# Altium footprint library Power_BJT_MOS_PcbLib.PcbLib: 24 footprints (part 2 of 2)
Each footprint in its own frame and in the unit in brackets; x right, y up, seen from the top. Pads: shape width x height; smd on the part's side, far side on the other; paste and mask are expansions set on the pad; w line width, h text height; cw(c..) or ccw(c..) is an arc to the next point about the centre after c.
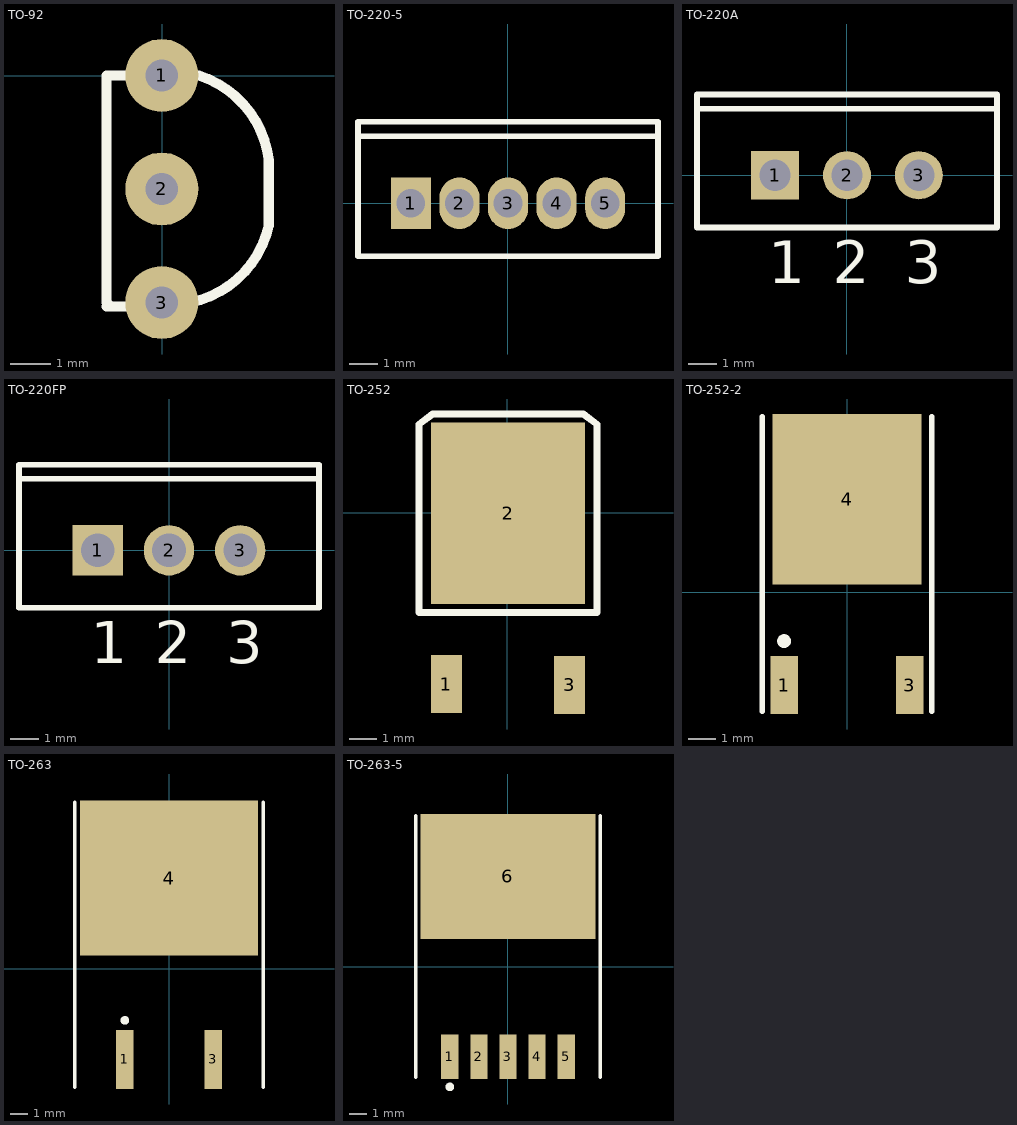
[diagram p1: the footprints below, top view; thin cyan lines are the x and y axes]

## TO-92 [mm]
pads (3):
  round 1.8 hole 0.8: 1(-0.009,0.004) 2(-0.009,-2.796) 3(-0.009,-5.596)
Top Overlay:
  lines w0.25: -1.369,-5.696 0.231,-5.696 ; -1.269,-5.696 -1.369,-5.596 -1.369,0.004 0.531,0.004 ; -0.354,-5.589 ccw(c0.192,-3.149) 2.631,-3.696 ; -0.136,0.104 cw(c0.147,-2.379) 2.631,-2.096
  lines w0.254: 2.631,-3.696 2.631,-2.096

## TO-220-5 [mm] "TO, Thru-Hole, Vertical, Heatsink Mounted; 5 In-Line Leads; Pitch 1.70 mm"
height 15.1
pads (5):
  rect 1.4x1.8 hole 1: 1(-3.4,0)
  oval 1.4x1.8 hole 1: 2(-1.7,0) 3(0,0) 4(1.7,0) 5(3.4,0)
Top Overlay:
  lines w0.2: -5.25,2.35 5.25,2.35 ; -5.25,-1.85 -5.25,2.85 5.25,2.85 5.25,-1.85 -5.25,-1.85

## TO-220A [mm] "TO, Thru-Hole, Vertical, Heatsink Mounted; 3 In-Line Leads; Pitch 2.54 mm"
height 19.7
pads (3):
  rect 1.7x1.7 hole 1.1: 1(-2.54,0)
  round 1.7 hole 1.1: 2(0,0) 3(2.54,0)
Top Overlay:
  lines w0.2: -5.3,2.35 5.3,2.35 ; -5.3,-1.85 5.3,-1.85 5.3,2.85 -5.3,2.85 -5.3,-1.85
  text "1" at -2.79,-3.825 h1.5
  text "2" at -0.5,-3.825 h1.5
  text "3" at 2.04,-3.825 h1.5

## TO-220FP [mm] "TO, Thru-Hole, Vertical, Heatsink Mounted; 3 In-Line Leads; Pitch 2.54 mm"
height 16.4
pads (3):
  rect 1.8x1.8 hole 1.2: 1(-2.54,0)
  round 1.8 hole 1.2: 2(0,0) 3(2.54,0)
Top Overlay:
  lines w0.2: -5.35,2.55 5.35,2.55 ; -5.35,-2.05 5.35,-2.05 5.35,3.05 -5.35,3.05 -5.35,-2.05
  text "3" at 2.04,-4.025 h1.5
  text "2" at -0.5,-4.025 h1.5
  text "1" at -2.79,-4.025 h1.5

## TO-252 [mil]
height 25.59
pads (3):
  rect 45x85 smd: 1(-89,-250) 3(91,-251.35)
  rect 225x265 smd: 2(1,-0.35)
Top Overlay:
  lines w10: -129,-145.35 131,-145.35 131,129.65 111,144.65 1,144.65 -109,144.65 -129,129.65 -129,-145.35

## TO-252-2 [mm] "D-PAK/TO-252-AA; 3 Leads (1 Cropped); Body 10.1 (inc. leads) x 6.6 mm (LxW max)"
height 2.4
pads (3):
  rect 1x2.1 smd: 1(-2.285,-3.375) 3(2.285,-3.375)
  rect 5.4x6.2 smd: 4(0,3.375)
Top Overlay:
  circle w0.25: c-2.285,-1.775 r0.125
  lines w0.2: -3.085,-4.325 -3.085,6.375 ; 3.085,-4.325 3.085,6.375

## TO-263 [mm] "D2-PAK/TO-263-AB; 3 Leads (1 Cropped); Body 15.9 (inc. leads) x 10.4 mm (LxW max)"
height 4.6
pads (3):
  rect 1x3.4 smd: 1(-2.54,-5.225) 3(2.54,-5.225)
  rect 10.25x8.9 smd: 4(0,5.225)
Top Overlay:
  circle w0.25: c-2.54,-2.975 r0.125
  lines w0.2: -5.425,-6.825 -5.425,9.575 ; 5.425,-6.825 5.425,9.575

## TO-263-5 [mm]
pads (6):
  rect 1x2.6 smd: 1(-3.398,-5.273) 2(-1.698,-5.273) 3(0.002,-5.273) 4(1.702,-5.273) 5(3.402,-5.273)
  rect 10.2x7.3 smd: 6(0.002,5.277)
Top Overlay:
  circle w0.25: c-3.398,-7.023 r0.125
  lines w0.2: -5.398,-6.473 -5.398,8.827 ; 5.402,-6.473 5.402,8.827